# EAGLE library part SAMACSYS_PARTS_MCP3004-I_SL (library goJAMMAv02)
A/D Converter 10Bit 4-ch 2.7V SPI SOIC14 Source: Datasheet <http://www.mouser.com/datasheet/2/268/21295b-72710.pdf>
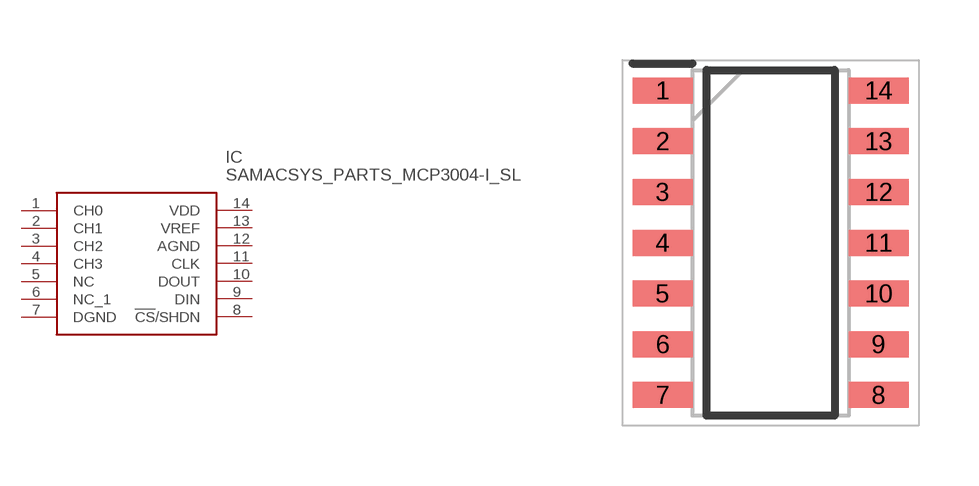
[diagram p7: symbol with the pads of SAMACSYS_PARTS_SOIC127P600X175-14N; footprint SAMACSYS_PARTS_SOIC127P600X175-14N]

Designator prefix IC

## SAMACSYS_PARTS_MCP3004-I_SL (DESCRIPTION: A/D Converter 10Bit 4-ch 2.7V SPI SOIC14; HEIGHT: 1.75mm; MANUFACTURER_NAME: Microchip; MANUFACTURER_PART_NUMBER: MCP3004-I/SL; MOUSER_PART_NUMBER: 579-MCP3004-I/SL; MOUSER_PRICE-STOCK: https://www.mouser.com/Search/Refine.aspx?Keyword=579-MCP3004-I%2FSL)  [SAMACSYS_PARTS_SOIC127P600X175-14N]
1  CH0
2  CH1
3  CH2
4  CH3
5  NC  nc
6  NC_1
7  DGND  pwr
8  !CS!/SHDN  in
9  DIN  in
10  DOUT  out
11  CLK  in
12  AGND  pwr
13  VREF  in
14  VDD  pwr

## Footprint SAMACSYS_PARTS_SOIC127P600X175-14N (pad centres in mm)
14-Lead(SL) SOIC
smd 1.5 x 0.65: 1 -2.7,3.81; 2 -2.7,2.54; 3 -2.7,1.27; 4 -2.7,0; 5 -2.7,-1.27; 6 -2.7,-2.54; 7 -2.7,-3.81; 8 2.7,-3.81; 9 2.7,-2.54; 10 2.7,-1.27; 11 2.7,0; 12 2.7,1.27; 13 2.7,2.54; 14 2.7,3.81